# Altium footprint library LF50ABDT.PcbLib: 2 footprints
Each footprint in its own frame and in the unit in brackets; x right, y up, seen from the top. Pads: shape width x height; smd on the part's side, far side on the other; paste and mask are expansions set on the pad; w line width, h text height; cw(c..) or ccw(c..) is an arc to the next point about the centre after c.
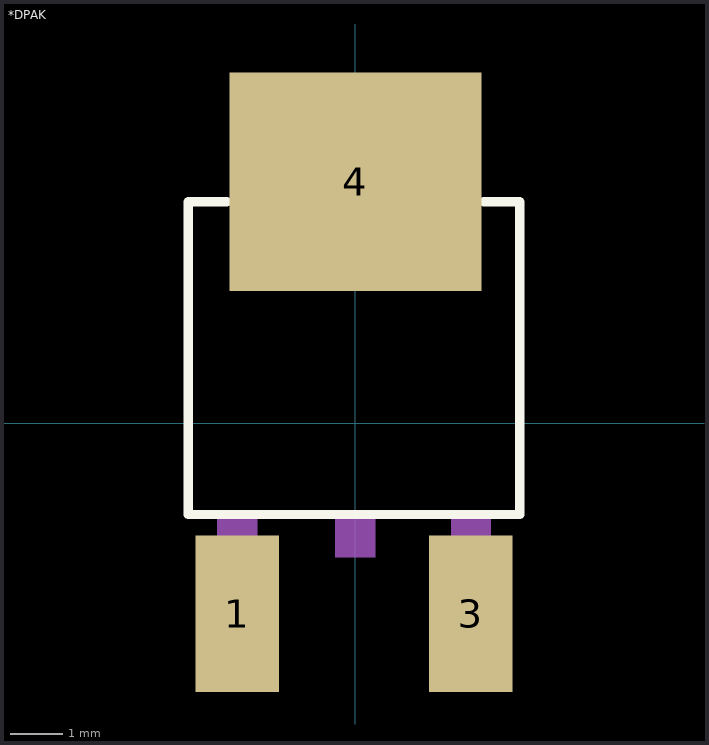
[diagram p0: the footprints below, top view; thin cyan lines are the x and y axes]

## *DPAK [mil]
pads (3):
  rect 63x118 smd: 1(-89,-144) 3(87,-144)
  rect 190x165 smd: 4(0,182)
Top Overlay:
  lines w7: -97,167 -126,167 -126,-69 124,-69 124,167 97,167
Mechanical 4:
  region: -15.04,-71 15,-71 15,-101.27 -15.04,-101.27
  region: 72.22,-71 102,-71 102,-176.55 72.22,-176.55
  region: -104.25,-71 -74,-71 -74,-176.43 -104.25,-176.43
  region: -15.04,-71 15,-71 15,-101.27 -15.04,-101.27
  region: 72.22,-71 102,-71 102,-176.55 72.22,-176.55
  region: -104.25,-71 -74,-71 -74,-176.43 -104.25,-176.43
  lines w6: -97,167 97,167 -97,167
  lines w10: -68,189 67,189 -68,189
  text "4" at -13.02,125.4 h73.82
  text "3" at 78.06,-71.89 h73.82
  text "2" at -8.02,-71.99 h73.82
  text "1" at -95.29,-72.03 h73.82
  text "4" at -13.02,125.4 h73.82
  text "3" at 78.06,-71.89 h73.82
  text "2" at -8.02,-71.99 h73.82
  text "1" at -95.29,-72.03 h73.82

## PCBComponent_1 [mil]